# Altium integrated library Rocket_Sensors.IntLib: 2 symbols
Pins are listed as number, name and electrical type; pins without a type are passive.

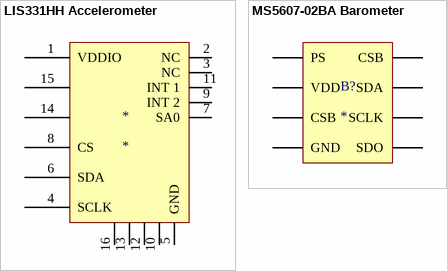
[diagram p0: symbols LIS331HH Accelerometer to MS5607-02BA Barometer]

## LIS331HH Accelerometer
designator *
footprint LGA16
pins: 1 VDDIO, 2 NC, 3 NC, 4 SCLK, 5 GND, 6 SDA, 7 SA0, 8 CS, 9 INT 2, 10, 11 INT 1, 12, 13, 14, 15, 16

## MS5607-02BA Barometer
designator B?
footprint Barometer LCC
pins: 1 VDD, 2 PS, 3 GND, 4 CSB, 5 CSB, 6 SDO, 7 SDA, 8 SCLK